# EAGLE library part LP5912-3.3DRVR (library LP5912-3.3DRVR)
500-mA low-noise low-IQ low-dropout (LDO) linear regulator Source: Datasheet <http://www.ti.com/lit/gpn/lp5912>
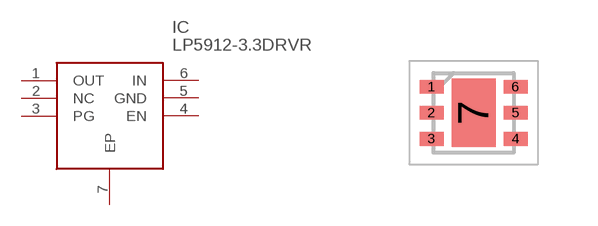
[diagram p0: symbol with the pads of SON65P200X200X80-7N; footprint SON65P200X200X80-7N]

Designator prefix IC

## LP5912-3.3DRVR (Description: 500-mA low-noise low-IQ low-dropout (LDO) linear regulator; Height: 0.8mm; Manufacturer_Name: Texas Instruments; Manufacturer_Part_Number: LP5912-3.3DRVR; Mouser_Part_Number: 595-LP5912-3.3DRVR; Mouser_Price-Stock: https://www.mouser.co.uk/ProductDetail/Texas-Instruments/LP5912-3.3DRVR?qs=n%252BTO0c4TDSY0RMrHlK%2FGvQ%3D%3D)  [SON65P200X200X80-7N]
1  OUT
2  NC  nc
3  PG
4  EN
5  GND
6  IN
7  EP

## Footprint SON65P200X200X80-7N (pad centres in mm)
DRV (S-PWSON-N6)
smd 0.6 x 0.35: 1 -1.05,0.65; 2 -1.05,0; 3 -1.05,-0.65; 4 1.05,-0.65; 5 1.05,0; 6 1.05,0.65
smd 1.1 x 1.7: 7 0,0